# Altium schematic symbol library M6E-NANO.SchLib: 1 symbol
Pins are listed as number, name and electrical type; pins without a type are passive.

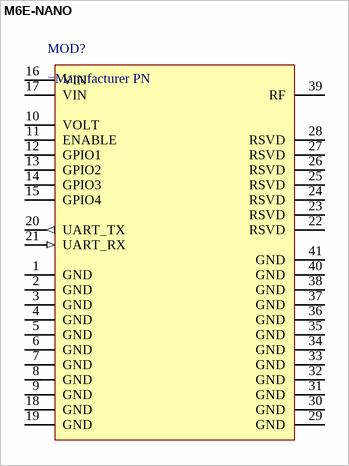
[diagram p0: symbol M6E-NANO]

## M6E-NANO
designator MOD?
RFID Reader Module
pins: 1 GND (power), 2 GND (power), 3 GND (power), 4 GND (power), 5 GND (power), 6 GND (power), 7 GND (power), 8 GND (power), 9 GND (power), 10 VOLT, 11 ENABLE, 12 GPIO1, 13 GPIO2, 14 GPIO3, 15 GPIO4, 16 VIN (power), 17 VIN (power), 18 GND (power), 19 GND (power), 20 UART_TX (out), 21 UART_RX (in), 22 RSVD, 23 RSVD, 24 RSVD, 25 RSVD, 26 RSVD, 27 RSVD, 28 RSVD, 29 GND (power), 30 GND (power), 31 GND (power), 32 GND (power), 33 GND (power), 34 GND (power), 35 GND (power), 36 GND (power), 37 GND (power), 38 GND (power), 39 RF, 40 GND (power), 41 GND (power)